# Altium footprint library Interface.PcbLib: 169 footprints (part 8 of 11)
Each footprint in its own frame and in the unit in brackets; x right, y up, seen from the top. Pads: shape width x height; smd on the part's side, far side on the other; paste and mask are expansions set on the pad; w line width, h text height; cw(c..) or ccw(c..) is an arc to the next point about the centre after c.
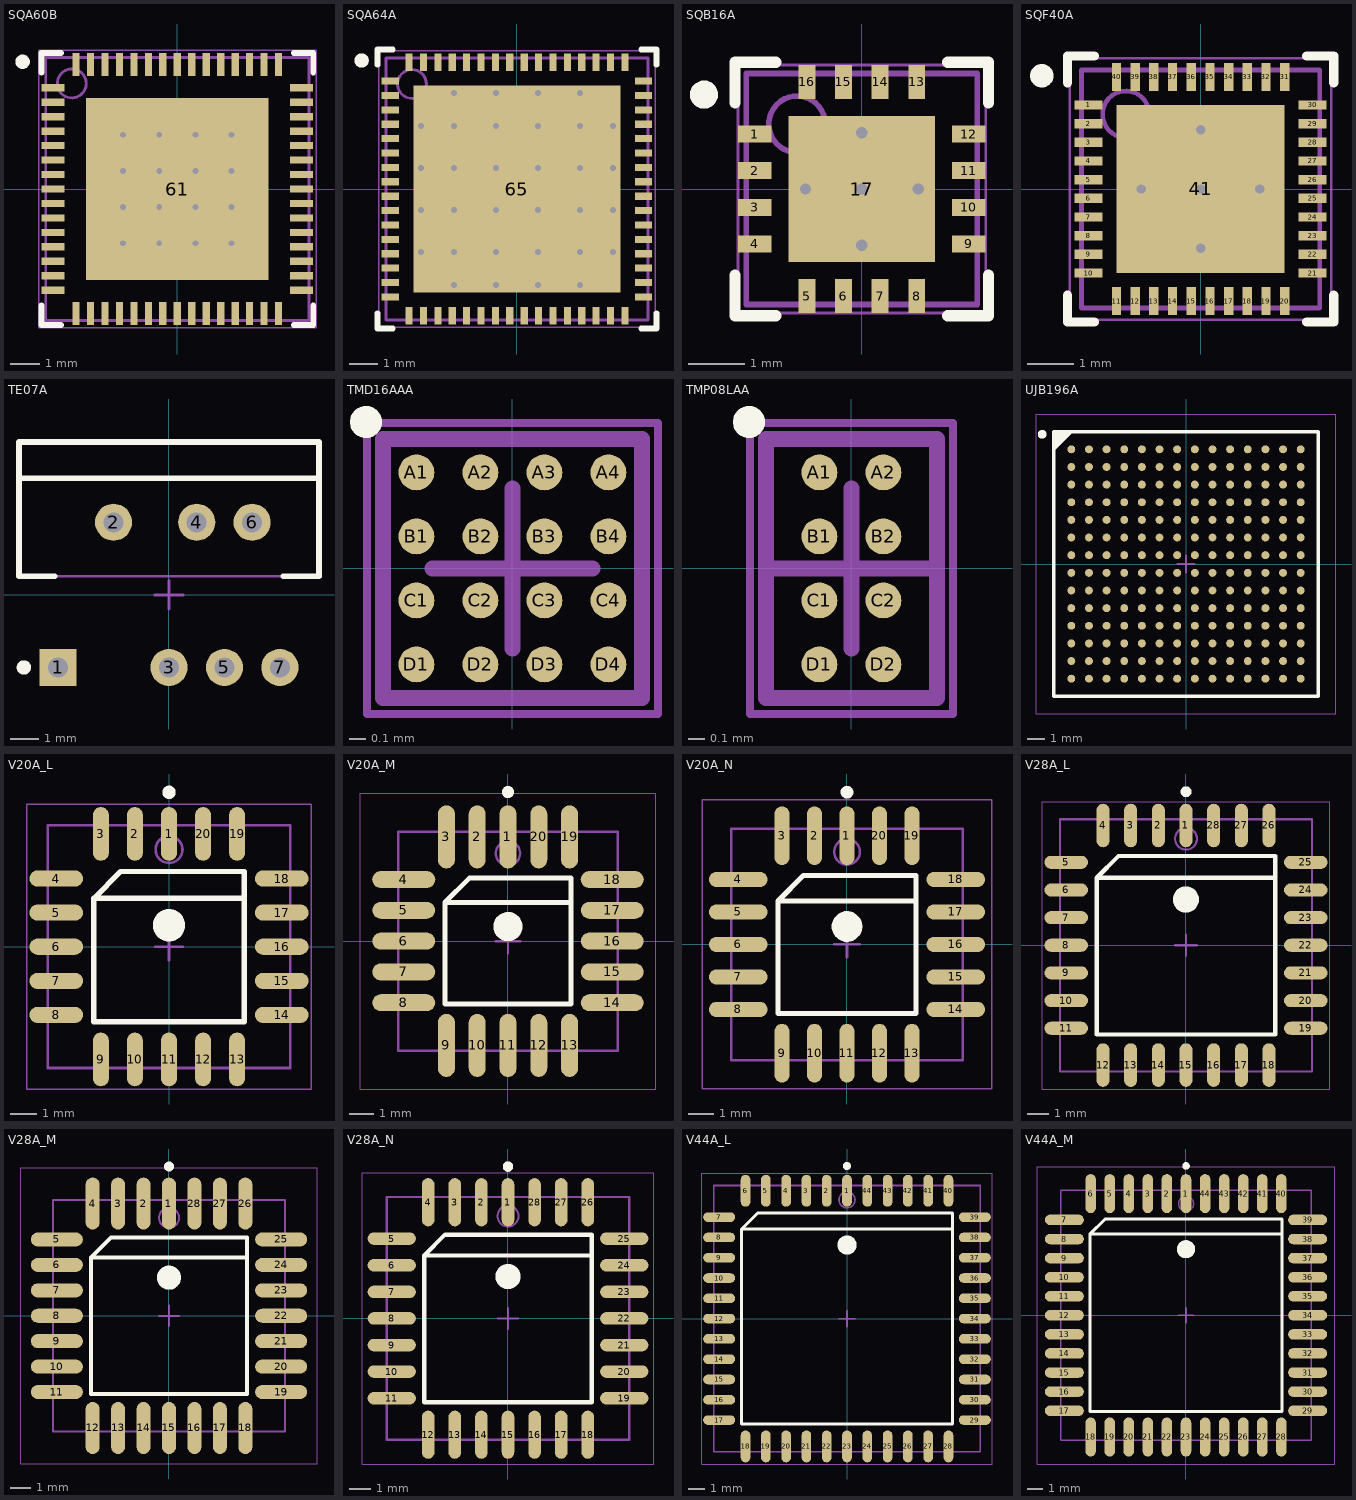
[diagram p7: the footprints below, top view; thin cyan lines are the x and y axes]

## SQA60B [mm] "QFN, 60-Leads, Body 9x9mm, Pitch 0.5mm, NSC Recommended"
height 0.8
pads (61):
  rect 0.8x0.25 smd paste-0.125 mask+0.051: 1(-4.3,3.5) 2(-4.3,3) 3(-4.3,2.5) 4(-4.3,2) 5(-4.3,1.5) 6(-4.3,1) 7(-4.3,0.5) 8(-4.3,0) 9(-4.3,-0.5) 10(-4.3,-1) 11(-4.3,-1.5) 12(-4.3,-2) 13(-4.3,-2.5) 14(-4.3,-3) 15(-4.3,-3.5) 31(4.3,-3.5) 32(4.3,-3) 33(4.3,-2.5) 34(4.3,-2) 35(4.3,-1.5) 36(4.3,-1) 37(4.3,-0.5) 38(4.3,0) 39(4.3,0.5) 40(4.3,1) 41(4.3,1.5) 42(4.3,2) 43(4.3,2.5) 44(4.3,3) 45(4.3,3.5)
  rect 0.25x0.8 smd paste-0.125 mask+0.051: 16(-3.5,-4.3) 17(-3,-4.3) 18(-2.5,-4.3) 19(-2,-4.3) 20(-1.5,-4.3) 21(-1,-4.3) 22(-0.5,-4.3) 23(0,-4.3) 24(0.5,-4.3) 25(1,-4.3) 26(1.5,-4.3) 27(2,-4.3) 28(2.5,-4.3) 29(3,-4.3) 30(3.5,-4.3) 46(3.5,4.3) 47(3,4.3) 48(2.5,4.3) 49(2,4.3) 50(1.5,4.3) 51(1,4.3) 52(0.5,4.3) 53(0,4.3) 54(-0.5,4.3) 55(-1,4.3) 56(-1.5,4.3) 57(-2,4.3) 58(-2.5,4.3) 59(-3,4.3) 60(-3.5,4.3)
  rect 6.3x6.3 smd paste-3.15 mask+0.051: 61(0,0)
via 0.625,0.625 diameter 0.5 hole 0.2
via 1.875,0.625 diameter 0.5 hole 0.2
via 0.625,1.875 diameter 0.5 hole 0.2
via 0.625,-0.625 diameter 0.5 hole 0.2
via 1.875,1.875 diameter 0.5 hole 0.2
via 1.875,-0.625 diameter 0.5 hole 0.2
via 1.875,-1.875 diameter 0.5 hole 0.2
via -0.625,0.625 diameter 0.5 hole 0.2
via -0.625,1.875 diameter 0.5 hole 0.2
via 0.625,1.875 diameter 0.5 hole 0.2
via -1.875,1.875 diameter 0.5 hole 0.2
via -0.625,-0.625 diameter 0.5 hole 0.2
via -1.875,-0.625 diameter 0.5 hole 0.2
via -1.875,0.625 diameter 0.5 hole 0.2
via -1.875,-1.875 diameter 0.5 hole 0.2
via -0.625,-1.875 diameter 0.5 hole 0.2
via 0.625,-1.875 diameter 0.5 hole 0.2
Top Overlay:
  circle w0.25: c-5.35,4.4 r0.125
  lines w0.2: -4.7,-4.025 -4.7,-4.7 -4.025,-4.7 ; -4.7,4.025 -4.7,4.7 -4.025,4.7 ; 4.025,-4.7 4.7,-4.7 4.7,-4.025 ; 4.025,4.7 4.7,4.7 4.7,4.025
Top Paste:
  region: 3.375,4.9 3.375,4 3.625,4 3.625,4.9
  region: 2.875,4.9 2.875,4 3.125,4 3.125,4.9
  region: 2.375,4.9 2.375,4 2.625,4 2.625,4.9
  region: 0.875,4.9 0.875,4 1.125,4 1.125,4.9
  region: 1.375,4.9 1.375,4 1.625,4 1.625,4.9
  region: 1.875,4.9 1.875,4 2.125,4 2.125,4.9
  region: -0.625,4.9 -0.625,4 -0.375,4 -0.375,4.9
  region: -0.125,4.9 -0.125,4 0.125,4 0.125,4.9
  region: 0.375,4.9 0.375,4 0.625,4 0.625,4.9
  region: -2.125,4.9 -2.125,4 -1.875,4 -1.875,4.9
  region: -1.625,4.9 -1.625,4 -1.375,4 -1.375,4.9
  region: -1.125,4.9 -1.125,4 -0.875,4 -0.875,4.9
  region: -3.625,4.9 -3.625,4 -3.375,4 -3.375,4.9
  region: -3.125,4.9 -3.125,4 -2.875,4 -2.875,4.9
  region: -2.625,4.9 -2.625,4 -2.375,4 -2.375,4.9
  region: 4.9,-3.375 4,-3.375 4,-3.625 4.9,-3.625
  region: 4.9,-2.875 4,-2.875 4,-3.125 4.9,-3.125
  region: 4.9,-2.375 4,-2.375 4,-2.625 4.9,-2.625
  region: 4.9,-0.875 4,-0.875 4,-1.125 4.9,-1.125
  region: 4.9,-1.375 4,-1.375 4,-1.625 4.9,-1.625
  region: 4.9,-1.875 4,-1.875 4,-2.125 4.9,-2.125
  region: 4.9,0.625 4,0.625 4,0.375 4.9,0.375
  region: 4.9,0.125 4,0.125 4,-0.125 4.9,-0.125
  region: 4.9,-0.375 4,-0.375 4,-0.625 4.9,-0.625
  region: 4.9,2.125 4,2.125 4,1.875 4.9,1.875
  region: 4.9,1.625 4,1.625 4,1.375 4.9,1.375
  region: 4.9,1.125 4,1.125 4,0.875 4.9,0.875
  region: 4.9,3.625 4,3.625 4,3.375 4.9,3.375
  region: 4.9,3.125 4,3.125 4,2.875 4.9,2.875
  region: 4.9,2.625 4,2.625 4,2.375 4.9,2.375
  region: -3.375,-4.9 -3.375,-4 -3.625,-4 -3.625,-4.9
  region: -2.875,-4.9 -2.875,-4 -3.125,-4 -3.125,-4.9
  region: -2.375,-4.9 -2.375,-4 -2.625,-4 -2.625,-4.9
  region: -0.875,-4.9 -0.875,-4 -1.125,-4 -1.125,-4.9
  region: -1.375,-4.9 -1.375,-4 -1.625,-4 -1.625,-4.9
  region: -1.875,-4.9 -1.875,-4 -2.125,-4 -2.125,-4.9
  region: 0.625,-4.9 0.625,-4 0.375,-4 0.375,-4.9
  region: 0.125,-4.9 0.125,-4 -0.125,-4 -0.125,-4.9
  region: -0.375,-4.9 -0.375,-4 -0.625,-4 -0.625,-4.9
  region: 2.125,-4.9 2.125,-4 1.875,-4 1.875,-4.9
  region: 1.625,-4.9 1.625,-4 1.375,-4 1.375,-4.9
  region: 1.125,-4.9 1.125,-4 0.875,-4 0.875,-4.9
  region: 3.625,-4.9 3.625,-4 3.375,-4 3.375,-4.9
  region: 3.125,-4.9 3.125,-4 2.875,-4 2.875,-4.9
  region: 2.625,-4.9 2.625,-4 2.375,-4 2.375,-4.9
  rectangle: -4.9,-2.625 -4,-2.375
  rectangle: -4.9,-3.125 -4,-2.875
  rectangle: -4.9,-3.625 -4,-3.375
  rectangle: -4.9,-1.125 -4,-0.875
  rectangle: -4.9,-1.625 -4,-1.375
  rectangle: -4.9,-2.125 -4,-1.875
  rectangle: -4.9,0.375 -4,0.625
  rectangle: -4.9,-0.125 -4,0.125
  rectangle: -4.9,-0.625 -4,-0.375
  rectangle: -4.9,1.875 -4,2.125
  rectangle: -4.9,1.375 -4,1.625
  rectangle: -4.9,0.875 -4,1.125
  rectangle: -4.9,2.375 -4,2.625
  rectangle: -4.9,2.875 -4,3.125
  rectangle: -0.475,-0.475 0.475,0.475
  region: 1.725,1.725 0.775,1.725 0.775,0.775 1.725,0.775
  region: 1.725,0.475 0.775,0.475 0.775,-0.475 1.725,-0.475
  region: 3.05,0.475 2.025,0.475 2.025,-0.475 3.05,-0.475
  region: 3.05,1.725 2.025,1.725 2.025,0.775 3.05,0.775
  region: 3.05,3.05 2.025,3.05 2.025,2.025 3.05,2.025
  region: 3.05,0.475 2.025,0.475 2.025,-0.475 3.05,-0.475
  region: 3.05,-2.025 2.025,-2.025 2.025,-3.05 3.05,-3.05
  region: 3.05,-0.775 2.025,-0.775 2.025,-1.725 3.05,-1.725
  rectangle: -3.05,-1.725 -2.025,-0.775
  rectangle: -3.05,-3.05 -2.025,-2.025
  rectangle: -3.05,-0.475 -2.025,0.475
  rectangle: -3.05,2.025 -2.025,3.05
  rectangle: -3.05,0.775 -2.025,1.725
  rectangle: -3.05,-0.475 -2.025,0.475
  region: 0.475,1.725 -0.475,1.725 -0.475,0.775 0.475,0.775
  rectangle: -1.725,0.775 -0.775,1.725
  region: -0.775,-0.475 -0.775,0.475 -1.725,0.475 -1.725,-0.475
  region: -0.775,-1.725 -0.775,-0.775 -1.725,-0.775 -1.725,-1.725
  region: 0.475,-1.725 0.475,-0.775 -0.475,-0.775 -0.475,-1.725
  region: 1.725,-1.725 1.725,-0.775 0.775,-0.775 0.775,-1.725
  region: 0.775,3.05 0.775,2.025 1.725,2.025 1.725,3.05
  region: -0.475,3.05 -0.475,2.025 0.475,2.025 0.475,3.05
  region: -1.725,3.05 -1.725,2.025 -0.775,2.025 -0.775,3.05
  region: 1.725,-3.05 1.725,-2.025 0.775,-2.025 0.775,-3.05
  region: 0.475,-3.05 0.475,-2.025 -0.475,-2.025 -0.475,-3.05
  region: -0.775,-3.05 -0.775,-2.025 -1.725,-2.025 -1.725,-3.05
  rectangle: -4.9,3.375 -4,3.625
Mechanical 13:
  circle w0.1: c-3.65,3.65 r0.5
  lines w0.1: -4.55,-4.55 -4.55,4.55 4.55,4.55 4.55,-4.55 -4.55,-4.55
Mechanical 15:
  lines w0.05: -4.8,-4.8 -4.8,4.8 4.8,4.8 4.8,-4.8 -4.8,-4.8
  lines w0.1: -0.5,0 0.5,0 ; 0,-0.5 0,0.5
3D body: height 0.8, standoff 0, extent -4.55,-4.55 4.55,4.55

## SQA64A [mm] "QFN, 64-Leads, Body 9x9mm, Pitch 0.5mm, NSC Recommended"
height 0.8
pads (65):
  rect 0.6x0.25 smd paste-0.125 mask+0.051: 1(-4.4,3.75) 2(-4.4,3.25) 3(-4.4,2.75) 4(-4.4,2.25) 5(-4.4,1.75) 6(-4.4,1.25) 7(-4.4,0.75) 8(-4.4,0.25) 9(-4.4,-0.25) 10(-4.4,-0.75) 11(-4.4,-1.25) 12(-4.4,-1.75) 13(-4.4,-2.25) 14(-4.4,-2.75) 15(-4.4,-3.25) 16(-4.4,-3.75) 33(4.4,-3.75) 34(4.4,-3.25) 35(4.4,-2.75) 36(4.4,-2.25) 37(4.4,-1.75) 38(4.4,-1.25) 39(4.4,-0.75) 40(4.4,-0.25) 41(4.4,0.25) 42(4.4,0.75) 43(4.4,1.25) 44(4.4,1.75) 45(4.4,2.25) 46(4.4,2.75) 47(4.4,3.25) 48(4.4,3.75)
  rect 0.25x0.6 smd paste-0.125 mask+0.051: 17(-3.75,-4.4) 18(-3.25,-4.4) 19(-2.75,-4.4) 20(-2.25,-4.4) 21(-1.75,-4.4) 22(-1.25,-4.4) 23(-0.75,-4.4) 24(-0.25,-4.4) 25(0.25,-4.4) 26(0.75,-4.4) 27(1.25,-4.4) 28(1.75,-4.4) 29(2.25,-4.4) 30(2.75,-4.4) 31(3.25,-4.4) 32(3.75,-4.4) 49(3.75,4.4) 50(3.25,4.4) 51(2.75,4.4) 52(2.25,4.4) 53(1.75,4.4) 54(1.25,4.4) 55(0.75,4.4) 56(0.25,4.4) 57(-0.25,4.4) 58(-0.75,4.4) 59(-1.25,4.4) 60(-1.75,4.4) 61(-2.25,4.4) 62(-2.75,4.4) 63(-3.25,4.4) 64(-3.75,4.4)
  rect 7.2x7.2 smd paste-3.6 mask+0.051: 65(0,0)
via 3.34,0.73 diameter 0.5 hole 0.2
via 3.34,2.19 diameter 0.5 hole 0.2
via -3.34,0.73 diameter 0.5 hole 0.2
via -3.34,2.19 diameter 0.5 hole 0.2
via -3.34,-0.73 diameter 0.5 hole 0.2
via -3.34,-2.19 diameter 0.5 hole 0.2
via 3.34,-2.19 diameter 0.5 hole 0.2
via 3.34,-0.73 diameter 0.5 hole 0.2
via -2.19,-3.34 diameter 0.5 hole 0.2
via -0.73,-3.34 diameter 0.5 hole 0.2
via 2.19,-3.34 diameter 0.5 hole 0.2
via 0.73,-3.34 diameter 0.5 hole 0.2
via 2.19,3.34 diameter 0.5 hole 0.2
via 0.73,3.34 diameter 0.5 hole 0.2
via -0.73,3.34 diameter 0.5 hole 0.2
via -2.19,3.34 diameter 0.5 hole 0.2
via 2.19,2.19 diameter 0.5 hole 0.2
via 0.73,2.19 diameter 0.5 hole 0.2
via -0.73,2.19 diameter 0.5 hole 0.2
via -2.19,2.19 diameter 0.5 hole 0.2
via 2.19,-2.19 diameter 0.5 hole 0.2
via 0.73,-2.19 diameter 0.5 hole 0.2
via -0.73,-2.19 diameter 0.5 hole 0.2
via -2.19,-2.19 diameter 0.5 hole 0.2
via -2.19,-0.73 diameter 0.5 hole 0.2
via 2.19,-0.73 diameter 0.5 hole 0.2
via 2.19,0.73 diameter 0.5 hole 0.2
via -2.19,0.73 diameter 0.5 hole 0.2
via 0.73,-0.73 diameter 0.5 hole 0.2
via -0.73,-0.73 diameter 0.5 hole 0.2
via -0.73,0.73 diameter 0.5 hole 0.2
via 0.73,0.73 diameter 0.5 hole 0.2
Top Overlay:
  circle w0.25: c-5.4,4.465 r0.125
  lines w0.2: -4.85,-4.32 -4.85,-4.85 -4.32,-4.85 ; -4.85,4.32 -4.85,4.85 -4.32,4.85 ; 4.32,-4.85 4.85,-4.85 4.85,-4.32 ; 4.32,4.85 4.85,4.85 4.85,4.32
Top Paste:
  region: 3.625,4.9 3.625,4.2 3.875,4.2 3.875,4.9
  region: 3.125,4.9 3.125,4.2 3.375,4.2 3.375,4.9
  region: 2.625,4.9 2.625,4.2 2.875,4.2 2.875,4.9
  region: 2.125,4.9 2.125,4.2 2.375,4.2 2.375,4.9
  region: 1.625,4.9 1.625,4.2 1.875,4.2 1.875,4.9
  region: 1.125,4.9 1.125,4.2 1.375,4.2 1.375,4.9
  region: 0.625,4.9 0.625,4.2 0.875,4.2 0.875,4.9
  region: 0.125,4.9 0.125,4.2 0.375,4.2 0.375,4.9
  region: -0.375,4.9 -0.375,4.2 -0.125,4.2 -0.125,4.9
  region: -0.875,4.9 -0.875,4.2 -0.625,4.2 -0.625,4.9
  region: -1.375,4.9 -1.375,4.2 -1.125,4.2 -1.125,4.9
  region: -1.875,4.9 -1.875,4.2 -1.625,4.2 -1.625,4.9
  region: -2.375,4.9 -2.375,4.2 -2.125,4.2 -2.125,4.9
  region: -2.875,4.9 -2.875,4.2 -2.625,4.2 -2.625,4.9
  region: -3.375,4.9 -3.375,4.2 -3.125,4.2 -3.125,4.9
  region: -3.875,4.9 -3.875,4.2 -3.625,4.2 -3.625,4.9
  region: 4.9,-3.625 4.2,-3.625 4.2,-3.875 4.9,-3.875
  region: 4.9,-3.125 4.2,-3.125 4.2,-3.375 4.9,-3.375
  region: 4.9,-2.625 4.2,-2.625 4.2,-2.875 4.9,-2.875
  region: 4.9,-2.125 4.2,-2.125 4.2,-2.375 4.9,-2.375
  region: 4.9,-1.625 4.2,-1.625 4.2,-1.875 4.9,-1.875
  region: 4.9,-1.125 4.2,-1.125 4.2,-1.375 4.9,-1.375
  region: 4.9,-0.625 4.2,-0.625 4.2,-0.875 4.9,-0.875
  region: 4.9,-0.125 4.2,-0.125 4.2,-0.375 4.9,-0.375
  region: 4.9,0.375 4.2,0.375 4.2,0.125 4.9,0.125
  region: 4.9,0.875 4.2,0.875 4.2,0.625 4.9,0.625
  region: 4.9,1.375 4.2,1.375 4.2,1.125 4.9,1.125
  region: 4.9,1.875 4.2,1.875 4.2,1.625 4.9,1.625
  region: 4.9,2.375 4.2,2.375 4.2,2.125 4.9,2.125
  region: 4.9,2.875 4.2,2.875 4.2,2.625 4.9,2.625
  region: 4.9,3.375 4.2,3.375 4.2,3.125 4.9,3.125
  region: 4.9,3.875 4.2,3.875 4.2,3.625 4.9,3.625
  region: -3.625,-4.9 -3.625,-4.2 -3.875,-4.2 -3.875,-4.9
  region: -3.125,-4.9 -3.125,-4.2 -3.375,-4.2 -3.375,-4.9
  region: -2.625,-4.9 -2.625,-4.2 -2.875,-4.2 -2.875,-4.9
  region: -2.125,-4.9 -2.125,-4.2 -2.375,-4.2 -2.375,-4.9
  region: -1.625,-4.9 -1.625,-4.2 -1.875,-4.2 -1.875,-4.9
  region: -1.125,-4.9 -1.125,-4.2 -1.375,-4.2 -1.375,-4.9
  region: -0.625,-4.9 -0.625,-4.2 -0.875,-4.2 -0.875,-4.9
  region: -0.125,-4.9 -0.125,-4.2 -0.375,-4.2 -0.375,-4.9
  region: 0.375,-4.9 0.375,-4.2 0.125,-4.2 0.125,-4.9
  region: 0.875,-4.9 0.875,-4.2 0.625,-4.2 0.625,-4.9
  region: 1.375,-4.9 1.375,-4.2 1.125,-4.2 1.125,-4.9
  region: 1.875,-4.9 1.875,-4.2 1.625,-4.2 1.625,-4.9
  region: 2.375,-4.9 2.375,-4.2 2.125,-4.2 2.125,-4.9
  region: 2.875,-4.9 2.875,-4.2 2.625,-4.2 2.625,-4.9
  region: 3.375,-4.9 3.375,-4.2 3.125,-4.2 3.125,-4.9
  region: 3.875,-4.9 3.875,-4.2 3.625,-4.2 3.625,-4.9
  rectangle: -4.9,-3.875 -4.2,-3.625
  rectangle: -4.9,-3.375 -4.2,-3.125
  rectangle: -4.9,-2.875 -4.2,-2.625
  rectangle: -4.9,-2.375 -4.2,-2.125
  rectangle: -4.9,-1.875 -4.2,-1.625
  rectangle: -4.9,-1.375 -4.2,-1.125
  rectangle: -4.9,-0.875 -4.2,-0.625
  rectangle: -4.9,-0.375 -4.2,-0.125
  rectangle: -4.9,0.125 -4.2,0.375
  rectangle: -4.9,0.625 -4.2,0.875
  rectangle: -4.9,1.125 -4.2,1.375
  rectangle: -4.9,1.625 -4.2,1.875
  rectangle: -4.9,2.125 -4.2,2.375
  rectangle: -4.9,2.625 -4.2,2.875
  rectangle: -4.9,3.125 -4.2,3.375
  rectangle: -3.5,-3.5 -2.34,-2.34
  rectangle: -2.04,-3.5 -0.88,-2.34
  rectangle: -0.58,-3.5 0.58,-2.34
  rectangle: 0.88,-3.5 2.04,-2.34
  rectangle: 2.34,-3.5 3.5,-2.34
  rectangle: 2.34,-2.04 3.5,-0.88
  rectangle: 0.88,-2.04 2.04,-0.88
  rectangle: -0.58,-2.04 0.58,-0.88
  rectangle: -2.04,-2.04 -0.88,-0.88
  rectangle: -3.5,-2.04 -2.34,-0.88
  rectangle: -3.5,-0.58 -2.34,0.58
  rectangle: -2.04,-0.58 -0.88,0.58
  rectangle: -2.04,0.88 -0.88,2.04
  rectangle: -3.5,0.88 -2.34,2.04
  rectangle: -3.5,2.34 -2.34,3.5
  rectangle: -2.04,2.34 -0.88,3.5
  rectangle: -0.58,2.34 0.58,3.5
  rectangle: -0.58,0.88 0.58,2.04
  rectangle: 2.34,0.88 3.5,2.04
  rectangle: 2.34,2.34 3.5,3.5
  rectangle: 0.88,2.34 2.04,3.5
  rectangle: 0.88,0.88 2.04,2.04
  rectangle: 2.34,-0.58 3.5,0.58
  rectangle: 0.88,-0.58 2.04,0.58
  rectangle: -0.58,-0.58 0.58,0.58
  rectangle: -4.9,3.625 -4.2,3.875
Mechanical 13:
  circle w0.1: c-3.65,3.65 r0.5
  lines w0.1: -4.55,-4.55 4.55,-4.55 4.55,4.55 -4.55,4.55 -4.55,-4.55
Mechanical 15:
  lines w0.05: -4.8,-4.8 4.8,-4.8 4.8,4.8 -4.8,4.8 -4.8,-4.8
  lines w0.1: -0.5,0 0.5,0 ; 0,-0.5 0,0.5
3D body: height 0.8, standoff 0, extent -4.549,-4.549 4.549,4.549

## SQB16A [mm] "QFN, 16-Leads, Body 4x4mm, Pitch 0.65mm, Thermal Pad 2.6x2.6mm, NSC Recommended"
height 0.8
pads (17):
  rect 0.6x0.3 smd paste-0.15 mask+0.051: 1(-1.9,0.975) 2(-1.9,0.325) 3(-1.9,-0.325) 4(-1.9,-0.975) 9(1.9,-0.975) 10(1.9,-0.325) 11(1.9,0.325) 12(1.9,0.975)
  rect 0.3x0.6 smd paste-0.15 mask+0.051: 5(-0.975,-1.9) 6(-0.325,-1.9) 7(0.325,-1.9) 8(0.975,-1.9) 13(0.975,1.9) 14(0.325,1.9) 15(-0.325,1.9) 16(-0.975,1.9)
  rect 2.6x2.6 smd paste-1.3 mask+0.051: 17(0,0)
via 0,0 diameter 0.5 hole 0.2
via 1,0 diameter 0.5 hole 0.2
via -1,0 diameter 0.5 hole 0.2
via 0,1 diameter 0.5 hole 0.2
via 0,-1 diameter 0.5 hole 0.2
Top Overlay:
  circle w0.25: c-2.8,1.675 r0.125
  lines w0.2: -2.25,-1.525 -2.25,-2.25 -1.525,-2.25 ; -2.25,1.525 -2.25,2.25 -1.525,2.25 ; 1.525,-2.25 2.25,-2.25 2.25,-1.525 ; 1.525,2.25 2.25,2.25 2.25,1.525
Top Paste:
  rectangle: -2.4,0.825 -1.7,1.125
  rectangle: -2.4,0.175 -1.7,0.475
  rectangle: -2.4,-0.475 -1.7,-0.175
  rectangle: -2.4,-1.125 -1.7,-0.825
  region: 1.125,-2.4 1.125,-1.7 0.825,-1.7 0.825,-2.4
  region: 0.475,-2.4 0.475,-1.7 0.175,-1.7 0.175,-2.4
  region: -0.175,-2.4 -0.175,-1.7 -0.475,-1.7 -0.475,-2.4
  region: -0.825,-2.4 -0.825,-1.7 -1.125,-1.7 -1.125,-2.4
  region: 2.4,1.125 1.7,1.125 1.7,0.825 2.4,0.825
  region: 2.4,0.475 1.7,0.475 1.7,0.175 2.4,0.175
  region: 2.4,-0.175 1.7,-0.175 1.7,-0.475 2.4,-0.475
  region: 2.4,-0.825 1.7,-0.825 1.7,-1.125 2.4,-1.125
  region: -1.125,2.4 -1.125,1.7 -0.825,1.7 -0.825,2.4
  region: -0.475,2.4 -0.475,1.7 -0.175,1.7 -0.175,2.4
  region: 0.175,2.4 0.175,1.7 0.475,1.7 0.475,2.4
  region: 0.825,2.4 0.825,1.7 1.125,1.7 1.125,2.4
  rectangle: 0.1,0.1 1.2,1.2
  region: -0.1,1.2 -1.2,1.2 -1.2,0.1 -0.1,0.1
  region: -0.1,-0.1 -1.2,-0.1 -1.2,-1.2 -0.1,-1.2
  rectangle: 0.1,-1.2 1.2,-0.1
Mechanical 13:
  circle w0.1: c-1.15,1.15 r0.5
  lines w0.1: -2.05,-2.05 -2.05,2.05 2.05,2.05 2.05,-2.05 -2.05,-2.05
Mechanical 15:
  lines w0.05: -2.2,-2.2 -2.2,2.2 2.2,2.2 2.2,-2.2 -2.2,-2.2
  lines w0.1: -0.5,0 0.5,0 ; 0,-0.5 0,0.5
3D body: height 0.8, standoff 0, extent -2.05,-2.05 2.05,2.05

## SQF40A [mm] "QFN, 40-Leads, Body 5x5 mm, Pitch 0.4mm, NSC Recommended"
height 0.8
pads (41):
  rect 0.6x0.2 smd paste-0.125 mask+0.051: 1(-2.4,1.8) 2(-2.4,1.4) 3(-2.4,1) 4(-2.4,0.6) 5(-2.4,0.2) 6(-2.4,-0.2) 7(-2.4,-0.6) 8(-2.4,-1) 9(-2.4,-1.4) 10(-2.4,-1.8) 21(2.4,-1.8) 22(2.4,-1.4) 23(2.4,-1) 24(2.4,-0.6) 25(2.4,-0.2) 26(2.4,0.2) 27(2.4,0.6) 28(2.4,1) 29(2.4,1.4) 30(2.4,1.8)
  rect 0.2x0.6 smd paste-0.125 mask+0.051: 11(-1.8,-2.4) 12(-1.4,-2.4) 13(-1,-2.4) 14(-0.6,-2.4) 15(-0.2,-2.4) 16(0.2,-2.4) 17(0.6,-2.4) 18(1,-2.4) 19(1.4,-2.4) 20(1.8,-2.4) 31(1.8,2.4) 32(1.4,2.4) 33(1,2.4) 34(0.6,2.4) 35(0.2,2.4) 36(-0.2,2.4) 37(-0.6,2.4) 38(-1,2.4) 39(-1.4,2.4) 40(-1.8,2.4)
  rect 3.6x3.6 smd paste-1.8 mask+0.051: 41(0,0)
via 0,0 diameter 0.5 hole 0.2
via 0,1.27 diameter 0.5 hole 0.2
via -1.27,0 diameter 0.5 hole 0.2
via 0,-1.27 diameter 0.5 hole 0.2
via 1.27,0 diameter 0.5 hole 0.2
Top Overlay:
  circle w0.25: c-3.4,2.425 r0.125
  lines w0.2: -2.85,-2.275 -2.85,-2.85 -2.275,-2.85 ; -2.85,2.275 -2.85,2.85 -2.275,2.85 ; 2.275,-2.85 2.85,-2.85 2.85,-2.275 ; 2.275,2.85 2.85,2.85 2.85,2.275
Top Paste:
  rectangle: 0.1,-1.6 1.6,-0.1
  region: -0.1,-0.1 -1.6,-0.1 -1.6,-1.6 -0.1,-1.6
  region: -0.1,1.6 -1.6,1.6 -1.6,0.1 -0.1,0.1
  rectangle: 0.1,0.1 1.6,1.6
  region: 1.7,2.9 1.7,2.2 1.9,2.2 1.9,2.9
  region: 1.3,2.9 1.3,2.2 1.5,2.2 1.5,2.9
  region: 0.5,2.9 0.5,2.2 0.7,2.2 0.7,2.9
  region: 0.9,2.9 0.9,2.2 1.1,2.2 1.1,2.9
  region: -1.9,2.9 -1.9,2.2 -1.7,2.2 -1.7,2.9
  region: -1.1,2.9 -1.1,2.2 -0.9,2.2 -0.9,2.9
  region: -1.5,2.9 -1.5,2.2 -1.3,2.2 -1.3,2.9
  region: -0.7,2.9 -0.7,2.2 -0.5,2.2 -0.5,2.9
  region: -0.3,2.9 -0.3,2.2 -0.1,2.2 -0.1,2.9
  region: 0.1,2.9 0.1,2.2 0.3,2.2 0.3,2.9
  region: 0.3,-2.9 0.3,-2.2 0.1,-2.2 0.1,-2.9
  region: -0.1,-2.9 -0.1,-2.2 -0.3,-2.2 -0.3,-2.9
  region: -0.5,-2.9 -0.5,-2.2 -0.7,-2.2 -0.7,-2.9
  region: -1.3,-2.9 -1.3,-2.2 -1.5,-2.2 -1.5,-2.9
  region: -0.9,-2.9 -0.9,-2.2 -1.1,-2.2 -1.1,-2.9
  region: -1.7,-2.9 -1.7,-2.2 -1.9,-2.2 -1.9,-2.9
  region: 1.1,-2.9 1.1,-2.2 0.9,-2.2 0.9,-2.9
  region: 0.7,-2.9 0.7,-2.2 0.5,-2.2 0.5,-2.9
  region: 1.5,-2.9 1.5,-2.2 1.3,-2.2 1.3,-2.9
  region: 1.9,-2.9 1.9,-2.2 1.7,-2.2 1.7,-2.9
  rectangle: -2.9,-1.9 -2.2,-1.7
  rectangle: -2.9,-1.5 -2.2,-1.3
  rectangle: -2.9,-0.7 -2.2,-0.5
  rectangle: -2.9,-1.1 -2.2,-0.9
  rectangle: -2.9,1.7 -2.2,1.9
  rectangle: -2.9,0.9 -2.2,1.1
  rectangle: -2.9,1.3 -2.2,1.5
  rectangle: -2.9,0.5 -2.2,0.7
  rectangle: -2.9,0.1 -2.2,0.3
  rectangle: -2.9,-0.3 -2.2,-0.1
  region: 2.9,-0.1 2.2,-0.1 2.2,-0.3 2.9,-0.3
  region: 2.9,0.3 2.2,0.3 2.2,0.1 2.9,0.1
  region: 2.9,0.7 2.2,0.7 2.2,0.5 2.9,0.5
  region: 2.9,1.5 2.2,1.5 2.2,1.3 2.9,1.3
  region: 2.9,1.1 2.2,1.1 2.2,0.9 2.9,0.9
  region: 2.9,1.9 2.2,1.9 2.2,1.7 2.9,1.7
  region: 2.9,-0.9 2.2,-0.9 2.2,-1.1 2.9,-1.1
  region: 2.9,-0.5 2.2,-0.5 2.2,-0.7 2.9,-0.7
  region: 2.9,-1.3 2.2,-1.3 2.2,-1.5 2.9,-1.5
  region: 2.9,-1.7 2.2,-1.7 2.2,-1.9 2.9,-1.9
Mechanical 13:
  circle w0.1: c-1.6,1.6 r0.5
  lines w0.1: -2.55,-2.55 -2.55,2.55 2.55,2.55 2.55,-2.55 -2.55,-2.55
Mechanical 15:
  lines w0.05: -2.8,-2.8 2.8,-2.8 2.8,2.8 -2.8,2.8 -2.8,-2.8
  lines w0.1: -0.5,0 0.5,0 ; 0,-0.5 0,0.5
3D body: height 0.8, standoff 0, extent -2.55,-2.55 2.55,2.55

## TE07A [mm] "TO, Thru-Hole, Vertical, Heatsink Mounted; 9 Bent Staggered Leads (2 Absent); Body 10.2x8.7x4.6mm, Pitch 0.97 mm"
height 20.9
pads (7):
  rect 1.3x1.3 hole 0.7: 1(-3.88,-2.54)
  round 1.3 hole 0.7: 2(-1.94,2.54) 3(0,-2.54) 4(0.97,2.54) 5(1.94,-2.54) 6(2.91,2.54) 7(3.88,-2.54)
Top Overlay:
  circle w0.25: c-5.08,-2.54 r0.125
  lines w0.2: -5.25,4.08 5.25,4.08 ; -4,0.65 -5.25,0.65 -5.25,5.35 5.25,5.35 5.25,0.65 4,0.65
Mechanical 13:
  lines w0.1: -5.25,4.08 5.25,4.08 ; -5.25,0.65 -5.25,5.35 5.25,5.35 5.25,0.65 -5.25,0.65
Mechanical 15:
  lines w0.1: -0.5,0 0.5,0 ; 0,-0.5 0,0.5
3D body: height 20.9, standoff 14.35, extent -5.249,4.081 5.249,5.349
3D body: height 14.35, standoff 4.6, extent -5.249,0.651 5.249,5.349

## TMD16AAA [mm] "Micro SMD, 16-Leads, Body 1.62x1.62mm, Pitch 0.4mm, NSC Recommended"
height 0.68
pads (16):
  round 0.225 smd paste-0.112 mask+0.05: A1(-0.6,0.6) A2(-0.2,0.6) A3(0.2,0.6) A4(0.6,0.6) B1(-0.6,0.2) B2(-0.2,0.2) B3(0.2,0.2) B4(0.6,0.2) C1(-0.6,-0.2) C2(-0.2,-0.2) C3(0.2,-0.2) C4(0.6,-0.2) D1(-0.6,-0.6) D2(-0.2,-0.6) D3(0.2,-0.6) D4(0.6,-0.6)
Top Overlay:
  circle w0.1: c-0.915,0.915 r0.05
Top Paste:
  circle w0.05: c0.675,-0.675 r0.025
  circle w0.05: c0.525,-0.525 r0.025
  circle w0.05: c0.525,-0.675 r0.025
  circle w0.05: c0.675,-0.525 r0.025
  circle w0.05: c0.275,-0.675 r0.025
  circle w0.05: c0.125,-0.525 r0.025
  circle w0.05: c0.125,-0.675 r0.025
  circle w0.05: c0.275,-0.525 r0.025
  circle w0.05: c-0.125,-0.675 r0.025
  circle w0.05: c-0.275,-0.525 r0.025
  circle w0.05: c-0.275,-0.675 r0.025
  circle w0.05: c-0.125,-0.525 r0.025
  circle w0.05: c-0.525,-0.675 r0.025
  circle w0.05: c-0.675,-0.525 r0.025
  circle w0.05: c-0.675,-0.675 r0.025
  circle w0.05: c-0.525,-0.525 r0.025
  circle w0.05: c0.675,-0.275 r0.025
  circle w0.05: c0.525,-0.125 r0.025
  circle w0.05: c0.525,-0.275 r0.025
  circle w0.05: c0.675,-0.125 r0.025
  circle w0.05: c0.275,-0.275 r0.025
  circle w0.05: c0.125,-0.125 r0.025
  circle w0.05: c0.125,-0.275 r0.025
  circle w0.05: c0.275,-0.125 r0.025
  circle w0.05: c-0.125,-0.275 r0.025
  circle w0.05: c-0.275,-0.125 r0.025
  circle w0.05: c-0.275,-0.275 r0.025
  circle w0.05: c-0.125,-0.125 r0.025
  circle w0.05: c-0.525,-0.275 r0.025
  circle w0.05: c-0.675,-0.125 r0.025
  circle w0.05: c-0.675,-0.275 r0.025
  circle w0.05: c-0.525,-0.125 r0.025
  circle w0.05: c0.675,0.125 r0.025
  circle w0.05: c0.525,0.275 r0.025
  circle w0.05: c0.525,0.125 r0.025
  circle w0.05: c0.675,0.275 r0.025
  circle w0.05: c0.275,0.125 r0.025
  circle w0.05: c0.125,0.275 r0.025
  circle w0.05: c0.125,0.125 r0.025
  circle w0.05: c0.275,0.275 r0.025
  circle w0.05: c-0.125,0.125 r0.025
  circle w0.05: c-0.275,0.275 r0.025
  circle w0.05: c-0.275,0.125 r0.025
  circle w0.05: c-0.125,0.275 r0.025
  circle w0.05: c-0.525,0.125 r0.025
  circle w0.05: c-0.675,0.275 r0.025
  circle w0.05: c-0.675,0.125 r0.025
  circle w0.05: c-0.525,0.275 r0.025
  circle w0.05: c0.675,0.525 r0.025
  circle w0.05: c0.525,0.675 r0.025
  circle w0.05: c0.525,0.525 r0.025
  circle w0.05: c0.675,0.675 r0.025
  circle w0.05: c0.275,0.525 r0.025
  circle w0.05: c0.125,0.675 r0.025
  circle w0.05: c0.125,0.525 r0.025
  circle w0.05: c0.275,0.675 r0.025
  circle w0.05: c-0.125,0.525 r0.025
  circle w0.05: c-0.275,0.675 r0.025
  circle w0.05: c-0.275,0.525 r0.025
  circle w0.05: c-0.125,0.675 r0.025
  circle w0.05: c-0.525,0.525 r0.025
  circle w0.05: c-0.675,0.675 r0.025
  circle w0.05: c-0.675,0.525 r0.025
  circle w0.05: c-0.525,0.675 r0.025
  region: 0.525,-0.525 0.525,-0.675 0.675,-0.675 0.675,-0.525
  region: 0.725,-0.675 0.725,-0.525 0.675,-0.525 0.675,-0.675
  region: 0.675,-0.475 0.525,-0.475 0.525,-0.525 0.675,-0.525
  region: 0.475,-0.525 0.475,-0.675 0.525,-0.675 0.525,-0.525
  rectangle: 0.525,-0.725 0.675,-0.675
  region: 0.125,-0.525 0.125,-0.675 0.275,-0.675 0.275,-0.525
  region: 0.325,-0.675 0.325,-0.525 0.275,-0.525 0.275,-0.675
  region: 0.275,-0.475 0.125,-0.475 0.125,-0.525 0.275,-0.525
  region: 0.075,-0.525 0.075,-0.675 0.125,-0.675 0.125,-0.525
  rectangle: 0.125,-0.725 0.275,-0.675
  region: -0.275,-0.525 -0.275,-0.675 -0.125,-0.675 -0.125,-0.525
  region: -0.075,-0.675 -0.075,-0.525 -0.125,-0.525 -0.125,-0.675
  region: -0.125,-0.475 -0.275,-0.475 -0.275,-0.525 -0.125,-0.525
  region: -0.325,-0.525 -0.325,-0.675 -0.275,-0.675 -0.275,-0.525
  rectangle: -0.275,-0.725 -0.125,-0.675
  region: -0.675,-0.525 -0.675,-0.675 -0.525,-0.675 -0.525,-0.525
  region: -0.475,-0.675 -0.475,-0.525 -0.525,-0.525 -0.525,-0.675
  region: -0.525,-0.475 -0.675,-0.475 -0.675,-0.525 -0.525,-0.525
  region: -0.725,-0.525 -0.725,-0.675 -0.675,-0.675 -0.675,-0.525
  rectangle: -0.675,-0.725 -0.525,-0.675
  region: 0.525,-0.125 0.525,-0.275 0.675,-0.275 0.675,-0.125
  region: 0.725,-0.275 0.725,-0.125 0.675,-0.125 0.675,-0.275
  region: 0.675,-0.075 0.525,-0.075 0.525,-0.125 0.675,-0.125
  region: 0.475,-0.125 0.475,-0.275 0.525,-0.275 0.525,-0.125
  rectangle: 0.525,-0.325 0.675,-0.275
  region: 0.125,-0.125 0.125,-0.275 0.275,-0.275 0.275,-0.125
  region: 0.325,-0.275 0.325,-0.125 0.275,-0.125 0.275,-0.275
  region: 0.275,-0.075 0.125,-0.075 0.125,-0.125 0.275,-0.125
  region: 0.075,-0.125 0.075,-0.275 0.125,-0.275 0.125,-0.125
  rectangle: 0.125,-0.325 0.275,-0.275
  region: -0.275,-0.125 -0.275,-0.275 -0.125,-0.275 -0.125,-0.125
  region: -0.075,-0.275 -0.075,-0.125 -0.125,-0.125 -0.125,-0.275
  region: -0.125,-0.075 -0.275,-0.075 -0.275,-0.125 -0.125,-0.125
  region: -0.325,-0.125 -0.325,-0.275 -0.275,-0.275 -0.275,-0.125
  rectangle: -0.275,-0.325 -0.125,-0.275
  region: -0.675,-0.125 -0.675,-0.275 -0.525,-0.275 -0.525,-0.125
  region: -0.475,-0.275 -0.475,-0.125 -0.525,-0.125 -0.525,-0.275
  region: -0.525,-0.075 -0.675,-0.075 -0.675,-0.125 -0.525,-0.125
  region: -0.725,-0.125 -0.725,-0.275 -0.675,-0.275 -0.675,-0.125
  rectangle: -0.675,-0.325 -0.525,-0.275
  region: 0.525,0.275 0.525,0.125 0.675,0.125 0.675,0.275
  region: 0.725,0.125 0.725,0.275 0.675,0.275 0.675,0.125
  region: 0.675,0.325 0.525,0.325 0.525,0.275 0.675,0.275
  region: 0.475,0.275 0.475,0.125 0.525,0.125 0.525,0.275
  rectangle: 0.525,0.075 0.675,0.125
  region: 0.125,0.275 0.125,0.125 0.275,0.125 0.275,0.275
  region: 0.325,0.125 0.325,0.275 0.275,0.275 0.275,0.125
  region: 0.275,0.325 0.125,0.325 0.125,0.275 0.275,0.275
  region: 0.075,0.275 0.075,0.125 0.125,0.125 0.125,0.275
  rectangle: 0.125,0.075 0.275,0.125
  region: -0.275,0.275 -0.275,0.125 -0.125,0.125 -0.125,0.275
  region: -0.075,0.125 -0.075,0.275 -0.125,0.275 -0.125,0.125
  region: -0.125,0.325 -0.275,0.325 -0.275,0.275 -0.125,0.275
  region: -0.325,0.275 -0.325,0.125 -0.275,0.125 -0.275,0.275
  rectangle: -0.275,0.075 -0.125,0.125
  region: -0.675,0.275 -0.675,0.125 -0.525,0.125 -0.525,0.275
  region: -0.475,0.125 -0.475,0.275 -0.525,0.275 -0.525,0.125
  region: -0.525,0.325 -0.675,0.325 -0.675,0.275 -0.525,0.275
  region: -0.725,0.275 -0.725,0.125 -0.675,0.125 -0.675,0.275
  rectangle: -0.675,0.075 -0.525,0.125
  region: 0.525,0.675 0.525,0.525 0.675,0.525 0.675,0.675
  region: 0.725,0.525 0.725,0.675 0.675,0.675 0.675,0.525
  region: 0.675,0.725 0.525,0.725 0.525,0.675 0.675,0.675
  region: 0.475,0.675 0.475,0.525 0.525,0.525 0.525,0.675
  rectangle: 0.525,0.475 0.675,0.525
  region: 0.125,0.675 0.125,0.525 0.275,0.525 0.275,0.675
  region: 0.325,0.525 0.325,0.675 0.275,0.675 0.275,0.525
  region: 0.275,0.725 0.125,0.725 0.125,0.675 0.275,0.675
  region: 0.075,0.675 0.075,0.525 0.125,0.525 0.125,0.675
  rectangle: 0.125,0.475 0.275,0.525
  region: -0.275,0.675 -0.275,0.525 -0.125,0.525 -0.125,0.675
  region: -0.075,0.525 -0.075,0.675 -0.125,0.675 -0.125,0.525
  region: -0.125,0.725 -0.275,0.725 -0.275,0.675 -0.125,0.675
  region: -0.325,0.675 -0.325,0.525 -0.275,0.525 -0.275,0.675
  rectangle: -0.275,0.475 -0.125,0.525
  region: -0.675,0.675 -0.675,0.525 -0.525,0.525 -0.525,0.675
  region: -0.475,0.525 -0.475,0.675 -0.525,0.675 -0.525,0.525
  region: -0.525,0.725 -0.675,0.725 -0.675,0.675 -0.525,0.675
  region: -0.725,0.675 -0.725,0.525 -0.675,0.525 -0.675,0.675
  rectangle: -0.675,0.475 -0.525,0.525
Mechanical 13:
  lines w0.1: -0.81,-0.81 0.81,-0.81 0.81,0.81 -0.81,0.81 -0.81,-0.81
Mechanical 15:
  lines w0.05: -0.91,-0.91 0.91,-0.91 0.91,0.91 -0.91,0.91 -0.91,-0.91
  lines w0.1: -0.5,0 0.5,0 ; 0,-0.5 0,0.5
3D body: height 0.68, standoff 0, extent -0.81,-0.81 0.81,0.81

## TMP08LAA [mm] "Micro SMD, 8-Leads, Body 1.62x1.07mm, Pitch 0.4mm, NSC Recommended"
height 0.68
pads (8):
  round 0.225 smd paste-0.112 mask+0.05: A1(-0.2,0.6) A2(0.2,0.6) B1(-0.2,0.2) B2(0.2,0.2) C1(-0.2,-0.2) C2(0.2,-0.2) D1(-0.2,-0.6) D2(0.2,-0.6)
Top Overlay:
  circle w0.1: c-0.64,0.915 r0.05
Top Paste:
  circle w0.05: c0.275,-0.675 r0.025
  circle w0.05: c0.125,-0.525 r0.025
  circle w0.05: c0.125,-0.675 r0.025
  circle w0.05: c0.275,-0.525 r0.025
  circle w0.05: c-0.125,-0.675 r0.025
  circle w0.05: c-0.275,-0.525 r0.025
  circle w0.05: c-0.275,-0.675 r0.025
  circle w0.05: c-0.125,-0.525 r0.025
  circle w0.05: c0.275,-0.275 r0.025
  circle w0.05: c0.125,-0.125 r0.025
  circle w0.05: c0.125,-0.275 r0.025
  circle w0.05: c0.275,-0.125 r0.025
  circle w0.05: c-0.125,-0.275 r0.025
  circle w0.05: c-0.275,-0.125 r0.025
  circle w0.05: c-0.275,-0.275 r0.025
  circle w0.05: c-0.125,-0.125 r0.025
  circle w0.05: c0.275,0.125 r0.025
  circle w0.05: c0.125,0.275 r0.025
  circle w0.05: c0.125,0.125 r0.025
  circle w0.05: c0.275,0.275 r0.025
  circle w0.05: c-0.125,0.125 r0.025
  circle w0.05: c-0.275,0.275 r0.025
  circle w0.05: c-0.275,0.125 r0.025
  circle w0.05: c-0.125,0.275 r0.025
  circle w0.05: c0.275,0.525 r0.025
  circle w0.05: c0.125,0.675 r0.025
  circle w0.05: c0.125,0.525 r0.025
  circle w0.05: c0.275,0.675 r0.025
  circle w0.05: c-0.125,0.525 r0.025
  circle w0.05: c-0.275,0.675 r0.025
  circle w0.05: c-0.275,0.525 r0.025
  circle w0.05: c-0.125,0.675 r0.025
  region: 0.125,-0.525 0.125,-0.675 0.275,-0.675 0.275,-0.525
  region: 0.325,-0.675 0.325,-0.525 0.275,-0.525 0.275,-0.675
  region: 0.275,-0.475 0.125,-0.475 0.125,-0.525 0.275,-0.525
  region: 0.075,-0.525 0.075,-0.675 0.125,-0.675 0.125,-0.525
  rectangle: 0.125,-0.725 0.275,-0.675
  region: -0.275,-0.525 -0.275,-0.675 -0.125,-0.675 -0.125,-0.525
  region: -0.075,-0.675 -0.075,-0.525 -0.125,-0.525 -0.125,-0.675
  region: -0.125,-0.475 -0.275,-0.475 -0.275,-0.525 -0.125,-0.525
  region: -0.325,-0.525 -0.325,-0.675 -0.275,-0.675 -0.275,-0.525
  rectangle: -0.275,-0.725 -0.125,-0.675
  region: 0.125,-0.125 0.125,-0.275 0.275,-0.275 0.275,-0.125
  region: 0.325,-0.275 0.325,-0.125 0.275,-0.125 0.275,-0.275
  region: 0.275,-0.075 0.125,-0.075 0.125,-0.125 0.275,-0.125
  region: 0.075,-0.125 0.075,-0.275 0.125,-0.275 0.125,-0.125
  rectangle: 0.125,-0.325 0.275,-0.275
  region: -0.275,-0.125 -0.275,-0.275 -0.125,-0.275 -0.125,-0.125
  region: -0.075,-0.275 -0.075,-0.125 -0.125,-0.125 -0.125,-0.275
  region: -0.125,-0.075 -0.275,-0.075 -0.275,-0.125 -0.125,-0.125
  region: -0.325,-0.125 -0.325,-0.275 -0.275,-0.275 -0.275,-0.125
  rectangle: -0.275,-0.325 -0.125,-0.275
  region: 0.125,0.275 0.125,0.125 0.275,0.125 0.275,0.275
  region: 0.325,0.125 0.325,0.275 0.275,0.275 0.275,0.125
  region: 0.275,0.325 0.125,0.325 0.125,0.275 0.275,0.275
  region: 0.075,0.275 0.075,0.125 0.125,0.125 0.125,0.275
  rectangle: 0.125,0.075 0.275,0.125
  region: -0.275,0.275 -0.275,0.125 -0.125,0.125 -0.125,0.275
  region: -0.075,0.125 -0.075,0.275 -0.125,0.275 -0.125,0.125
  region: -0.125,0.325 -0.275,0.325 -0.275,0.275 -0.125,0.275
  region: -0.325,0.275 -0.325,0.125 -0.275,0.125 -0.275,0.275
  rectangle: -0.275,0.075 -0.125,0.125
  region: 0.125,0.675 0.125,0.525 0.275,0.525 0.275,0.675
  region: 0.325,0.525 0.325,0.675 0.275,0.675 0.275,0.525
  region: 0.275,0.725 0.125,0.725 0.125,0.675 0.275,0.675
  region: 0.075,0.675 0.075,0.525 0.125,0.525 0.125,0.675
  rectangle: 0.125,0.475 0.275,0.525
  region: -0.275,0.675 -0.275,0.525 -0.125,0.525 -0.125,0.675
  region: -0.075,0.525 -0.075,0.675 -0.125,0.675 -0.125,0.525
  region: -0.125,0.725 -0.275,0.725 -0.275,0.675 -0.125,0.675
  region: -0.325,0.675 -0.325,0.525 -0.275,0.525 -0.275,0.675
  rectangle: -0.275,0.475 -0.125,0.525
Mechanical 13:
  lines w0.1: -0.535,-0.81 0.535,-0.81 0.535,0.81 -0.535,0.81 -0.535,-0.81
Mechanical 15:
  lines w0.05: -0.635,-0.91 0.635,-0.91 0.635,0.91 -0.635,0.91 -0.635,-0.91
  lines w0.1: -0.5,0 0.5,0 ; 0,-0.5 0,0.5
3D body: height 0.68, standoff 0, extent -0.535,-0.81 0.535,0.81

## UJB196A [mm] "BGA, 196-Leads, Body 15x15mm, Pitch 1mm"
height 1.47
pads (196):
  round 0.45 smd: A1(-6.5,6.5) A2(-5.5,6.5) A3(-4.5,6.5) A4(-3.5,6.5) A5(-2.5,6.5) A6(-1.5,6.5) A7(-0.5,6.5) A8(0.5,6.5) A9(1.5,6.5) A10(2.5,6.5) A11(3.5,6.5) A12(4.5,6.5) A13(5.5,6.5) A14(6.5,6.5) B1(-6.5,5.5) B2(-5.5,5.5) B3(-4.5,5.5) B4(-3.5,5.5) B5(-2.5,5.5) B6(-1.5,5.5) B7(-0.5,5.5) B8(0.5,5.5) B9(1.5,5.5) B10(2.5,5.5) B11(3.5,5.5) B12(4.5,5.5) B13(5.5,5.5) B14(6.5,5.5) C1(-6.5,4.5) C2(-5.5,4.5) C3(-4.5,4.5) C4(-3.5,4.5) C5(-2.5,4.5) C6(-1.5,4.5) C7(-0.5,4.5) C8(0.5,4.5) C9(1.5,4.5) C10(2.5,4.5) C11(3.5,4.5) C12(4.5,4.5) C13(5.5,4.5) C14(6.5,4.5) D1(-6.5,3.5) D2(-5.5,3.5) D3(-4.5,3.5) D4(-3.5,3.5) D5(-2.5,3.5) D6(-1.5,3.5) D7(-0.5,3.5) D8(0.5,3.5) D9(1.5,3.5) D10(2.5,3.5) D11(3.5,3.5) D12(4.5,3.5) D13(5.5,3.5) D14(6.5,3.5) E1(-6.5,2.5) E2(-5.5,2.5) E3(-4.5,2.5) E4(-3.5,2.5) E5(-2.5,2.5) E6(-1.5,2.5) E7(-0.5,2.5) E8(0.5,2.5) E9(1.5,2.5) E10(2.5,2.5) E11(3.5,2.5) E12(4.5,2.5) E13(5.5,2.5) E14(6.5,2.5) F1(-6.5,1.5) F2(-5.5,1.5) F3(-4.5,1.5) F4(-3.5,1.5) F5(-2.5,1.5) F6(-1.5,1.5) F7(-0.5,1.5) F8(0.5,1.5) F9(1.5,1.5) F10(2.5,1.5) F11(3.5,1.5) F12(4.5,1.5) F13(5.5,1.5) F14(6.5,1.5) G1(-6.5,0.5) G2(-5.5,0.5) G3(-4.5,0.5) G4(-3.5,0.5) G5(-2.5,0.5) G6(-1.5,0.5) G7(-0.5,0.5) G8(0.5,0.5) G9(1.5,0.5) G10(2.5,0.5) G11(3.5,0.5) G12(4.5,0.5) G13(5.5,0.5) G14(6.5,0.5) H1(-6.5,-0.5) H2(-5.5,-0.5) H3(-4.5,-0.5) H4(-3.5,-0.5) H5(-2.5,-0.5) H6(-1.5,-0.5) H7(-0.5,-0.5) H8(0.5,-0.5) H9(1.5,-0.5) H10(2.5,-0.5) H11(3.5,-0.5) H12(4.5,-0.5) H13(5.5,-0.5) H14(6.5,-0.5) J1(-6.5,-1.5) J2(-5.5,-1.5) J3(-4.5,-1.5) J4(-3.5,-1.5) J5(-2.5,-1.5) J6(-1.5,-1.5) J7(-0.5,-1.5) J8(0.5,-1.5) J9(1.5,-1.5) J10(2.5,-1.5) J11(3.5,-1.5) J12(4.5,-1.5) J13(5.5,-1.5) J14(6.5,-1.5) K1(-6.5,-2.5) K2(-5.5,-2.5) K3(-4.5,-2.5) K4(-3.5,-2.5) K5(-2.5,-2.5) K6(-1.5,-2.5) K7(-0.5,-2.5) K8(0.5,-2.5) K9(1.5,-2.5) K10(2.5,-2.5) K11(3.5,-2.5) K12(4.5,-2.5) K13(5.5,-2.5) K14(6.5,-2.5) L1(-6.5,-3.5) L2(-5.5,-3.5) L3(-4.5,-3.5) L4(-3.5,-3.5) L5(-2.5,-3.5) L6(-1.5,-3.5) L7(-0.5,-3.5) L8(0.5,-3.5) L9(1.5,-3.5) L10(2.5,-3.5) L11(3.5,-3.5) L12(4.5,-3.5) L13(5.5,-3.5) L14(6.5,-3.5) M1(-6.5,-4.5) M2(-5.5,-4.5) M3(-4.5,-4.5) M4(-3.5,-4.5) M5(-2.5,-4.5) M6(-1.5,-4.5) M7(-0.5,-4.5) M8(0.5,-4.5) M9(1.5,-4.5) M10(2.5,-4.5) M11(3.5,-4.5) M12(4.5,-4.5) M13(5.5,-4.5) M14(6.5,-4.5) N1(-6.5,-5.5) N2(-5.5,-5.5) N3(-4.5,-5.5) N4(-3.5,-5.5) N5(-2.5,-5.5) N6(-1.5,-5.5) N7(-0.5,-5.5) N8(0.5,-5.5) N9(1.5,-5.5) N10(2.5,-5.5) N11(3.5,-5.5) N12(4.5,-5.5) N13(5.5,-5.5) N14(6.5,-5.5) P1(-6.5,-6.5) P2(-5.5,-6.5) P3(-4.5,-6.5) P4(-3.5,-6.5) P5(-2.5,-6.5) P6(-1.5,-6.5) P7(-0.5,-6.5) P8(0.5,-6.5) P9(1.5,-6.5) P10(2.5,-6.5) P11(3.5,-6.5) P12(4.5,-6.5) P13(5.5,-6.5) P14(6.5,-6.5)
Top Overlay:
  circle w0.25: c-8.15,7.35 r0.125
  region: -6.5,7.5 -7.5,6.5 -7.5,7.5
  lines w0.2: -7.5,6.5 -6.5,7.5 ; -7.5,-7.5 7.5,-7.5 7.5,7.5 -7.5,7.5 -7.5,-7.5
Mechanical 13:
  lines w0.1: -7.5,-7.5 7.5,-7.5 7.5,7.5 -7.5,7.5 -7.5,-7.5
Mechanical 15:
  lines w0.05: -8.5,-8.5 8.5,-8.5 8.5,8.5 -8.5,8.5 -8.5,-8.5
  lines w0.1: -0.5,0 0.5,0 ; 0,-0.5 0,0.5
3D body: height 1.47, standoff 0, extent -7.5,-7.5 7.5,7.5

## V20A_L [mm] "Leaded Chip Carrier, 20-Leads, Body 9x9mm, Pitch 1.27mm, IPC High Density"
height 4.57
pads (20):
  oval 0.6x2 smd: 1(0,4.2) 2(-1.27,4.2) 3(-2.54,4.2) 9(-2.54,-4.2) 10(-1.27,-4.2) 11(0,-4.2) 12(1.27,-4.2) 13(2.54,-4.2) 19(2.54,4.2) 20(1.27,4.2)
  oval 2x0.6 smd: 4(-4.2,2.54) 5(-4.2,1.27) 6(-4.2,0) 7(-4.2,-1.27) 8(-4.2,-2.54) 14(4.2,-2.54) 15(4.2,-1.27) 16(4.2,0) 17(4.2,1.27) 18(4.2,2.54)
Top Overlay:
  circle w0.6: c0,0.8 r0.3
  circle w0.25: c0,5.75 r0.125
  lines w0.2: 2.8,1.8 -2.8,1.8 ; -2.8,1.8 -2.8,-2.8 2.8,-2.8 2.8,2.8 -1.8,2.8 -2.8,1.8
Mechanical 13:
  circle w0.1: c0,3.62 r0.5
  lines w0.1: -4.52,-4.52 4.52,-4.52 4.52,4.52 -4.52,4.52 -4.52,-4.52
Mechanical 15:
  lines w0.05: -5.3,-5.3 5.3,-5.3 5.3,5.3 -5.3,5.3 -5.3,-5.3
  lines w0.1: -0.5,0 0.5,0 ; 0,-0.5 0,0.5
3D body: height 4.57, standoff 0, extent -4.52,-4.52 4.52,4.52

## V20A_M [mm] "Leaded Chip Carrier, 20-Leads, Body 9x9mm, Pitch 1.27mm, IPC Low Density"
height 4.57
pads (20):
  oval 0.7x2.6 smd: 1(0,4.3) 2(-1.27,4.3) 3(-2.54,4.3) 9(-2.54,-4.3) 10(-1.27,-4.3) 11(0,-4.3) 12(1.27,-4.3) 13(2.54,-4.3) 19(2.54,4.3) 20(1.27,4.3)
  oval 2.6x0.7 smd: 4(-4.3,2.54) 5(-4.3,1.27) 6(-4.3,0) 7(-4.3,-1.27) 8(-4.3,-2.54) 14(4.3,-2.54) 15(4.3,-1.27) 16(4.3,0) 17(4.3,1.27) 18(4.3,2.54)
Top Overlay:
  circle w0.6: c0,0.6 r0.3
  circle w0.25: c0,6.15 r0.125
  lines w0.2: 2.6,1.6 -2.6,1.6 ; -2.6,1.6 -2.6,-2.6 2.6,-2.6 2.6,2.6 -1.6,2.6 -2.6,1.6
Mechanical 13:
  circle w0.1: c0,3.62 r0.5
  lines w0.1: -4.52,-4.52 4.52,-4.52 4.52,4.52 -4.52,4.52 -4.52,-4.52
Mechanical 15:
  lines w0.05: -6.1,-6.1 6.1,-6.1 6.1,6.1 -6.1,6.1 -6.1,-6.1
  lines w0.1: -0.5,0 0.5,0 ; 0,-0.5 0,0.5
3D body: height 4.57, standoff 0, extent -4.52,-4.52 4.52,4.52

## V20A_N [mm] "Leaded Chip Carrier, 20-Leads, Body 9x9mm, Pitch 1.27mm, IPC Medium Density"
height 4.57
pads (20):
  oval 0.6x2.3 smd: 1(0,4.25) 2(-1.27,4.25) 3(-2.54,4.25) 9(-2.54,-4.25) 10(-1.27,-4.25) 11(0,-4.25) 12(1.27,-4.25) 13(2.54,-4.25) 19(2.54,4.25) 20(1.27,4.25)
  oval 2.3x0.6 smd: 4(-4.25,2.54) 5(-4.25,1.27) 6(-4.25,0) 7(-4.25,-1.27) 8(-4.25,-2.54) 14(4.25,-2.54) 15(4.25,-1.27) 16(4.25,0) 17(4.25,1.27) 18(4.25,2.54)
Top Overlay:
  circle w0.25: c0,5.95 r0.125
  circle w0.6: c0,0.7 r0.3
  lines w0.2: 2.7,1.7 -2.7,1.7 ; -2.7,1.7 -1.7,2.7 2.7,2.7 2.7,-2.7 -2.7,-2.7 -2.7,1.7
Mechanical 13:
  circle w0.1: c0,3.62 r0.5
  lines w0.1: -4.52,-4.52 -4.52,4.52 4.52,4.52 4.52,-4.52 -4.52,-4.52
Mechanical 15:
  lines w0.05: -5.65,-5.65 -5.65,5.65 5.65,5.65 5.65,-5.65 -5.65,-5.65
  lines w0.1: -0.5,0 0.5,0 ; 0,-0.5 0,0.5
3D body: height 4.57, standoff 0, extent -4.52,-4.52 4.52,4.52

## V28A_L [mm] "Leaded Chip Carrier, 28-Leads, Body 11.5x11.5mm, Pitch 1.27mm, IPC High Density"
height 4.57
pads (28):
  oval 0.6x2 smd: 1(0,5.5) 2(-1.27,5.5) 3(-2.54,5.5) 4(-3.81,5.5) 12(-3.81,-5.5) 13(-2.54,-5.5) 14(-1.27,-5.5) 15(0,-5.5) 16(1.27,-5.5) 17(2.54,-5.5) 18(3.81,-5.5) 26(3.81,5.5) 27(2.54,5.5) 28(1.27,5.5)
  oval 2x0.6 smd: 5(-5.5,3.81) 6(-5.5,2.54) 7(-5.5,1.27) 8(-5.5,0) 9(-5.5,-1.27) 10(-5.5,-2.54) 11(-5.5,-3.81) 19(5.5,-3.81) 20(5.5,-2.54) 21(5.5,-1.27) 22(5.5,0) 23(5.5,1.27) 24(5.5,2.54) 25(5.5,3.81)
Top Overlay:
  circle w0.25: c0,7.05 r0.125
  circle w0.6: c0,2.1 r0.3
  lines w0.2: 4.1,3.1 -4.1,3.1 ; -4.1,3.1 -3.1,4.1 4.1,4.1 4.1,-4.1 -4.1,-4.1 -4.1,3.1
Mechanical 13:
  circle w0.1: c0,4.89 r0.5
  lines w0.1: -5.79,-5.79 -5.79,5.79 5.79,5.79 5.79,-5.79 -5.79,-5.79
Mechanical 15:
  lines w0.05: -6.6,-6.6 -6.6,6.6 6.6,6.6 6.6,-6.6 -6.6,-6.6
  lines w0.1: -0.5,0 0.5,0 ; 0,-0.5 0,0.5
3D body: height 4.57, standoff 0, extent -5.79,-5.79 5.79,5.79

## V28A_M [mm] "Leaded Chip Carrier, 28-Leads, Body 11.5x11.5mm, Pitch 1.27mm, IPC Low Density"
height 4.57
pads (28):
  oval 0.7x2.6 smd: 1(0,5.6) 2(-1.27,5.6) 3(-2.54,5.6) 4(-3.81,5.6) 12(-3.81,-5.6) 13(-2.54,-5.6) 14(-1.27,-5.6) 15(0,-5.6) 16(1.27,-5.6) 17(2.54,-5.6) 18(3.81,-5.6) 26(3.81,5.6) 27(2.54,5.6) 28(1.27,5.6)
  oval 2.6x0.7 smd: 5(-5.6,3.81) 6(-5.6,2.54) 7(-5.6,1.27) 8(-5.6,0) 9(-5.6,-1.27) 10(-5.6,-2.54) 11(-5.6,-3.81) 19(5.6,-3.81) 20(5.6,-2.54) 21(5.6,-1.27) 22(5.6,0) 23(5.6,1.27) 24(5.6,2.54) 25(5.6,3.81)
Top Overlay:
  circle w0.6: c0,1.9 r0.3
  circle w0.25: c0,7.45 r0.125
  lines w0.2: 3.9,2.9 -3.9,2.9 ; -3.9,2.9 -3.9,-3.9 3.9,-3.9 3.9,3.9 -2.9,3.9 -3.9,2.9
Mechanical 13:
  circle w0.1: c0,4.89 r0.5
  lines w0.1: -5.79,-5.79 5.79,-5.79 5.79,5.79 -5.79,5.79 -5.79,-5.79
Mechanical 15:
  lines w0.05: -7.4,-7.4 7.4,-7.4 7.4,7.4 -7.4,7.4 -7.4,-7.4
  lines w0.1: -0.5,0 0.5,0 ; 0,-0.5 0,0.5
3D body: height 4.57, standoff 0, extent -5.79,-5.79 5.79,5.79

## V28A_N [mm] "Leaded Chip Carrier, 28-Leads, Body 11.5x11.5mm, Pitch 1.27mm, IPC Medium Density"
height 4.57
pads (28):
  oval 0.6x2.3 smd: 1(0,5.55) 2(-1.27,5.55) 3(-2.54,5.55) 4(-3.81,5.55) 12(-3.81,-5.55) 13(-2.54,-5.55) 14(-1.27,-5.55) 15(0,-5.55) 16(1.27,-5.55) 17(2.54,-5.55) 18(3.81,-5.55) 26(3.81,5.55) 27(2.54,5.55) 28(1.27,5.55)
  oval 2.3x0.6 smd: 5(-5.55,3.81) 6(-5.55,2.54) 7(-5.55,1.27) 8(-5.55,0) 9(-5.55,-1.27) 10(-5.55,-2.54) 11(-5.55,-3.81) 19(5.55,-3.81) 20(5.55,-2.54) 21(5.55,-1.27) 22(5.55,0) 23(5.55,1.27) 24(5.55,2.54) 25(5.55,3.81)
Top Overlay:
  circle w0.25: c0,7.25 r0.125
  circle w0.6: c0,2 r0.3
  lines w0.2: 4,3 -4,3 ; -4,3 -3,4 4,4 4,-4 -4,-4 -4,3
Mechanical 13:
  circle w0.1: c0,4.89 r0.5
  lines w0.1: -5.79,-5.79 -5.79,5.79 5.79,5.79 5.79,-5.79 -5.79,-5.79
Mechanical 15:
  lines w0.05: -6.95,-6.95 -6.95,6.95 6.95,6.95 6.95,-6.95 -6.95,-6.95
  lines w0.1: -0.5,0 0.5,0 ; 0,-0.5 0,0.5
3D body: height 4.57, standoff 0, extent -5.79,-5.79 5.79,5.79

## V44A_L [mm] "Leaded Chip Carrier, 44-Leads, Body 16.6x16.6mm, Pitch 1.27mm, IPC High Density"
height 4.57
pads (44):
  oval 0.6x2 smd: 1(0,8) 2(-1.27,8) 3(-2.54,8) 4(-3.81,8) 5(-5.08,8) 6(-6.35,8) 18(-6.35,-8) 19(-5.08,-8) 20(-3.81,-8) 21(-2.54,-8) 22(-1.27,-8) 23(0,-8) 24(1.27,-8) 25(2.54,-8) 26(3.81,-8) 27(5.08,-8) 28(6.35,-8) 40(6.35,8) 41(5.08,8) 42(3.81,8) 43(2.54,8) 44(1.27,8)
  oval 2x0.6 smd: 7(-8,6.35) 8(-8,5.08) 9(-8,3.81) 10(-8,2.54) 11(-8,1.27) 12(-8,0) 13(-8,-1.27) 14(-8,-2.54) 15(-8,-3.81) 16(-8,-5.08) 17(-8,-6.35) 29(8,-6.35) 30(8,-5.08) 31(8,-3.81) 32(8,-2.54) 33(8,-1.27) 34(8,0) 35(8,1.27) 36(8,2.54) 37(8,3.81) 38(8,5.08) 39(8,6.35)
Top Overlay:
  circle w0.25: c0,9.55 r0.125
  circle w0.6: c0,4.6 r0.3
  lines w0.2: 6.6,5.6 -6.6,5.6 ; -6.6,5.6 -5.6,6.6 6.6,6.6 6.6,-6.6 -6.6,-6.6 -6.6,5.6
Mechanical 13:
  circle w0.1: c0,7.43 r0.5
  lines w0.1: -8.33,-8.33 -8.33,8.33 8.33,8.33 8.33,-8.33 -8.33,-8.33
Mechanical 15:
  lines w0.05: -9.1,-9.1 -9.1,9.1 9.1,9.1 9.1,-9.1 -9.1,-9.1
  lines w0.1: -0.5,0 0.5,0 ; 0,-0.5 0,0.5
3D body: height 4.57, standoff 0, extent -8.33,-8.33 8.33,8.33

## V44A_M [mm] "Leaded Chip Carrier, 44-Leads, Body 16.6x16.6mm, Pitch 1.27mm, IPC Low Density"
height 4.57
pads (44):
  oval 0.7x2.6 smd: 1(0,8.1) 2(-1.27,8.1) 3(-2.54,8.1) 4(-3.81,8.1) 5(-5.08,8.1) 6(-6.35,8.1) 18(-6.35,-8.1) 19(-5.08,-8.1) 20(-3.81,-8.1) 21(-2.54,-8.1) 22(-1.27,-8.1) 23(0,-8.1) 24(1.27,-8.1) 25(2.54,-8.1) 26(3.81,-8.1) 27(5.08,-8.1) 28(6.35,-8.1) 40(6.35,8.1) 41(5.08,8.1) 42(3.81,8.1) 43(2.54,8.1) 44(1.27,8.1)
  oval 2.6x0.7 smd: 7(-8.1,6.35) 8(-8.1,5.08) 9(-8.1,3.81) 10(-8.1,2.54) 11(-8.1,1.27) 12(-8.1,0) 13(-8.1,-1.27) 14(-8.1,-2.54) 15(-8.1,-3.81) 16(-8.1,-5.08) 17(-8.1,-6.35) 29(8.1,-6.35) 30(8.1,-5.08) 31(8.1,-3.81) 32(8.1,-2.54) 33(8.1,-1.27) 34(8.1,0) 35(8.1,1.27) 36(8.1,2.54) 37(8.1,3.81) 38(8.1,5.08) 39(8.1,6.35)
Top Overlay:
  circle w0.6: c0,4.4 r0.3
  circle w0.25: c0,9.95 r0.125
  lines w0.2: 6.4,5.4 -6.4,5.4 ; -6.4,5.4 -6.4,-6.4 6.4,-6.4 6.4,6.4 -5.4,6.4 -6.4,5.4
Mechanical 13:
  circle w0.1: c0,7.43 r0.5
  lines w0.1: -8.33,-8.33 8.33,-8.33 8.33,8.33 -8.33,8.33 -8.33,-8.33
Mechanical 15:
  lines w0.05: -9.9,-9.9 9.9,-9.9 9.9,9.9 -9.9,9.9 -9.9,-9.9
  lines w0.1: -0.5,0 0.5,0 ; 0,-0.5 0,0.5
3D body: height 4.57, standoff 0, extent -8.33,-8.33 8.33,8.33